# Altium schematic symbol library WCAP-ASLU.SchLib: 59 symbols (part 2 of 2)
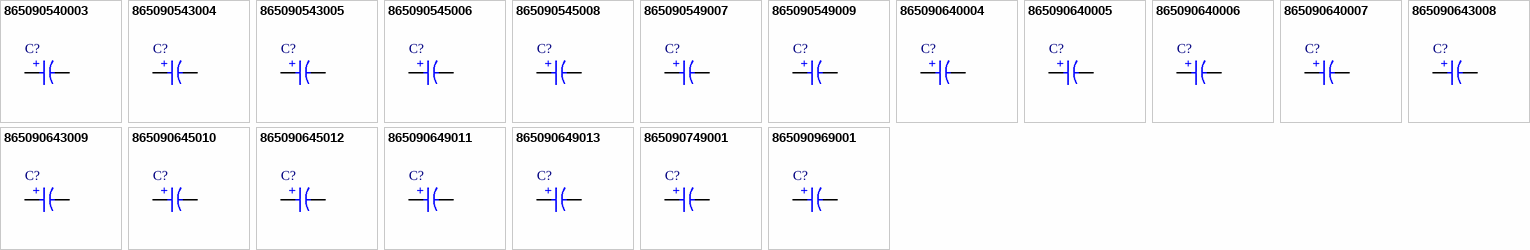
[diagram p2: symbols 865090540003 to 865090969001]

## 865090649013
designator C?, comment 33µF  (value not drawn)
WCAP-ASLU Aluminum Electrolytic Capacitor, V-Chip, SMT, 8mm x 6.5mm, 33µF, 50V (DC); Manufacturer Part Number: 865090649013; Manufacturer: Wurth Elektronik; Dissipation Factor: 12; Endurance: 1000h; Leakage Current: 3.3μA; Ripple Current: 71mA; Category: Aluminum Electrolytic Capacitors; Match Code: WCAP-ASLU; ComponentLink1Description: Website Link; ComponentLink1URL: https://www.we-online.com/redexpert/article/865090649013?ad; ComponentLink2Description: Datasheet Link; ComponentLink2URL: https://www.we-online.com/redexpert/spec/865090649013?ad; Mount: Surface Mount; Min Operating Temperature: -40°C; Max Operating Temperature: 85°C; Packaging: Tape and Reel; Height: 6.5mm; Diameter: 8mm; Capacitance: 33µF; Rated Voltage: 50V (DC)
footprint WCAP-ASLU_D8H6.5
simulation model 865090649013_33uF
pins: 1 P, 2 N
text: +

## 865090749001
designator C?, comment 22µF  (value not drawn)
WCAP-ASLU Aluminum Electrolytic Capacitor, V-Chip, SMT, 8mm x 6.5mm, 22µF, 63V (DC); Manufacturer Part Number: 865090749001; Manufacturer: Wurth Elektronik; Dissipation Factor: 12; Endurance: 2000h; Leakage Current: 14μA; Ripple Current: 75mA; Category: Aluminum Electrolytic Capacitors; Match Code: WCAP-ASLU; ComponentLink1Description: Website Link; ComponentLink1URL: https://www.we-online.com/redexpert/article/865090749001?ad; ComponentLink2Description: Datasheet Link; ComponentLink2URL: https://www.we-online.com/redexpert/spec/865090749001?ad; Mount: Surface Mount; Min Operating Temperature: -40°C; Max Operating Temperature: 85°C; Packaging: Tape and Reel; Height: 6.5mm; Diameter: 8mm; Capacitance: 22µF; Rated Voltage: 63V (DC)
footprint WCAP-ASLU_D8H6.5
simulation model 865090749001_22uF
pins: 1 P, 2 N
text: +

## 865090969001
designator C?, comment 47µF  (value not drawn)
WCAP-ASLU Aluminum Electrolytic Capacitor, V-Chip, SMT, 12.5mm x 16mm, 47µF, 160V (DC); Manufacturer Part Number: 865090969001; Manufacturer: Wurth Elektronik; Dissipation Factor: 15; Endurance: 2000h; Leakage Current: 401μA; Ripple Current: 370mA; Category: Aluminum Electrolytic Capacitors; Match Code: WCAP-ASLU; ComponentLink1Description: Website Link; ComponentLink1URL: https://www.we-online.com/redexpert/article/865090969001?ad; ComponentLink2Description: Datasheet Link; ComponentLink2URL: https://www.we-online.com/redexpert/spec/865090969001?ad; Mount: Surface Mount; Min Operating Temperature: -40°C; Max Operating Temperature: 85°C; Packaging: Tape and Reel; Height: 16mm; Diameter: 12.5mm; Capacitance: 47µF; Rated Voltage: 160V (DC)
footprint WCAP-ASLU_D12.5H16
simulation model 865090969001_47uF
pins: 1 P, 2 N
text: +